# Altium schematic symbol library CD4504.Schlib: 1 symbol
Pins are listed as number, name and electrical type; pins without a type are passive.

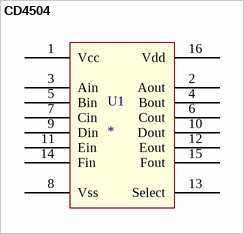
[diagram p0: symbol CD4504]

## CD4504
designator U1
CMOS Hex Voltage Level Shifter
pins: 1 Vcc, 2 Aout, 3 Ain, 4 Bout, 5 Bin, 6 Cout, 7 Cin, 8 Vss, 9 Din, 10 Dout, 11 Ein, 12 Eout, 13 Select, 14 Fin, 15 Fout, 16 Vdd